# Altium schematic symbol library NASCO.SchLib: 63 symbols
Pins are listed as number, name and electrical type; pins without a type are passive.

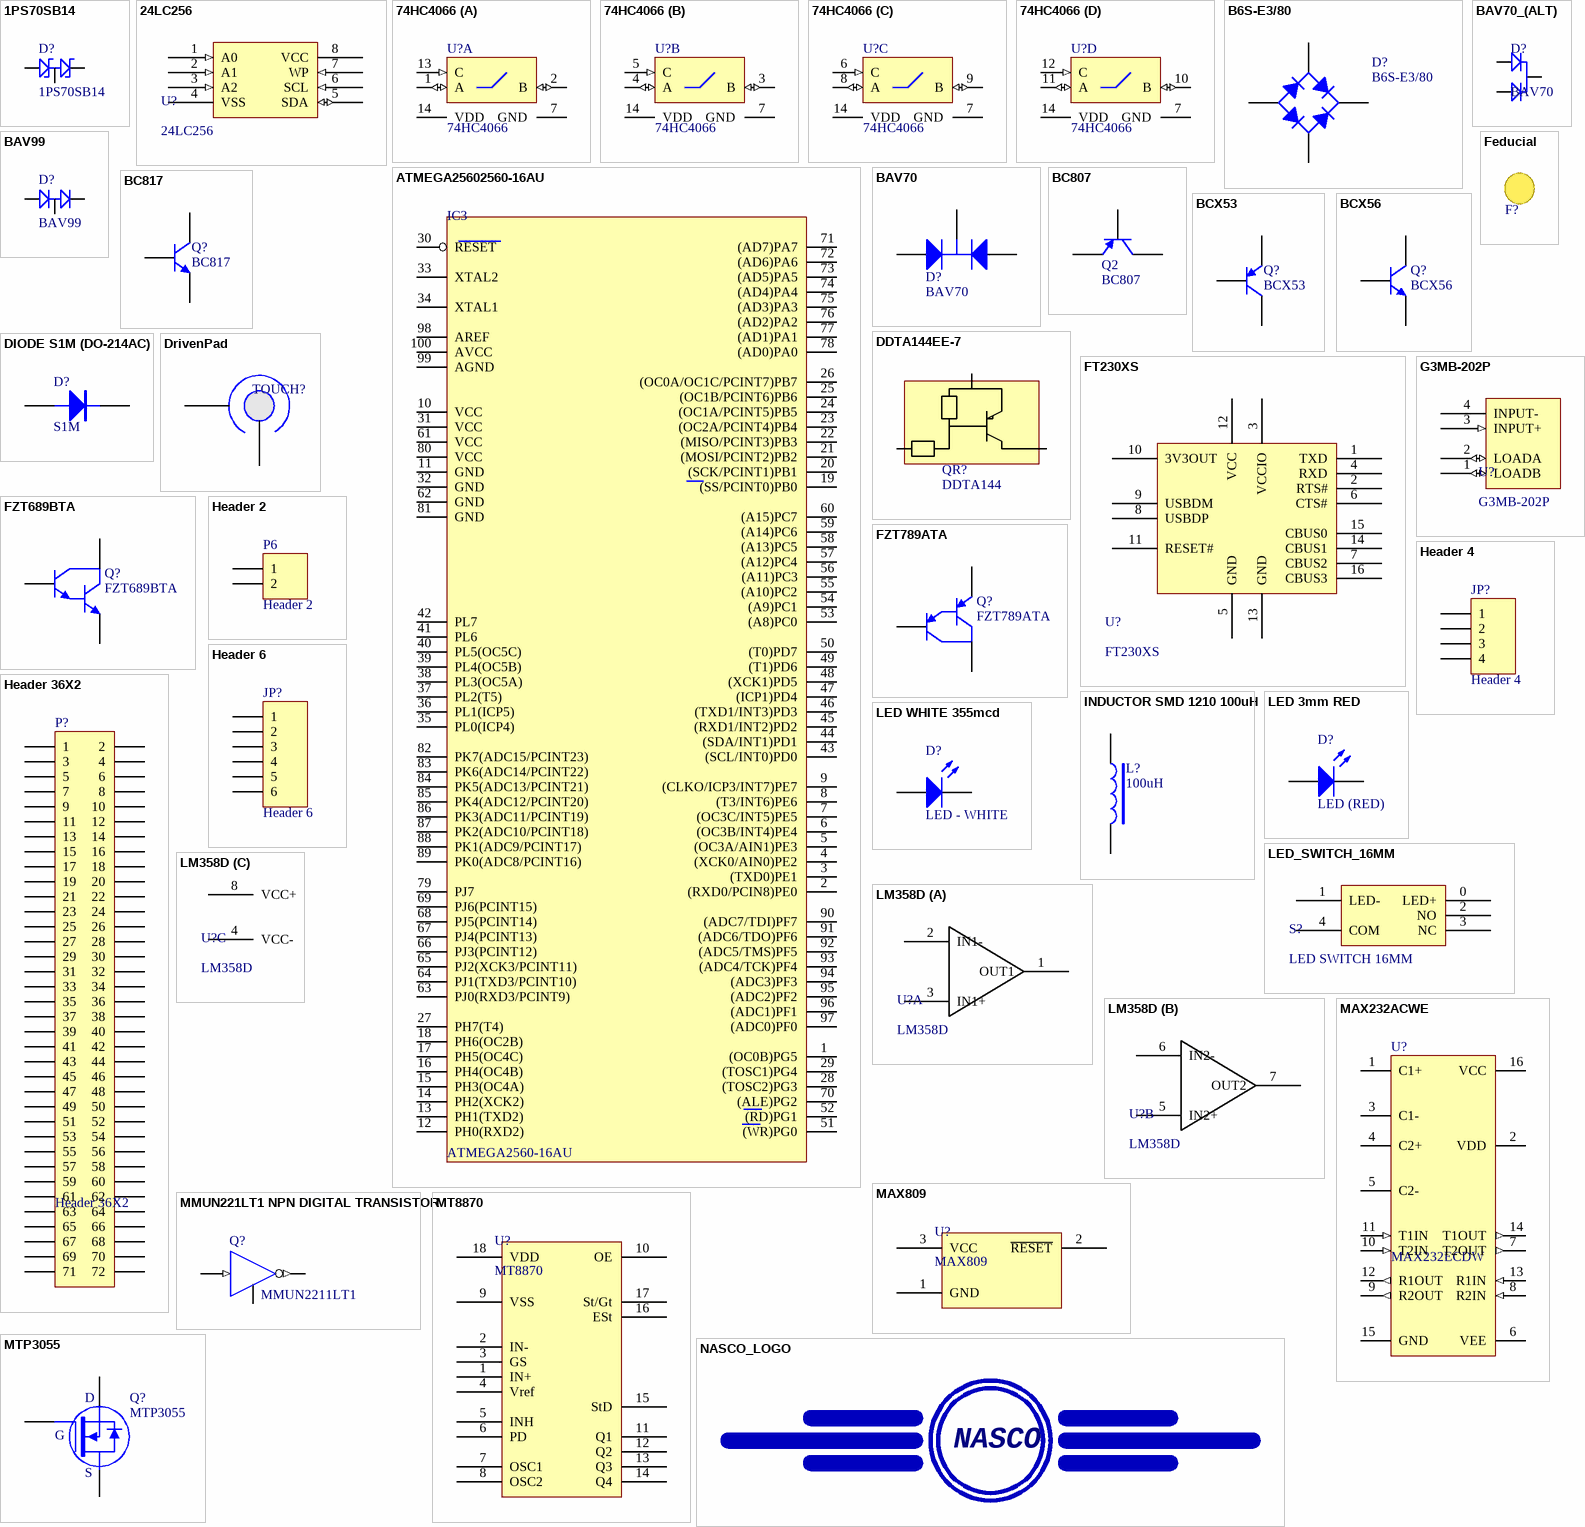
[diagram p0: symbols 1PS70SB14 to NASCO_LOGO]

## 1PS70SB14
designator D?
DUAL DIODE, SCHOTTKY; Manufacturer: NXP SEMICONDUCTORS; Manufacturer Part No.: 1PS70SB14,115; Mouser Part no.: 771-1PS70SB14115; PackageReference: SOT-23; value: 1PS70SB14; Web link: http://au.mouser.com/ProductDetail/NXP/1PS70SB14115/?qs=%2fha2pyFaduilAAyL24tUzZnn4tsMeHrtxaD3Jd8jZKE%3d
footprint SOT23-3L (SOT23, 3-Leads, Body 2.9x1.3mm, Pitch 0.95mm, Lead Span 2.5mm, IPC High Density)
pins: 1 A1, 2 C2, 3 C1/A2

## 24LC256
designator U?
256K I2C CMOS Serial EEPROM
footprint SO-8 (SOIC, 8-Leads, Body 4.9x3.9mm, Pitch 1.27mm, IPC High Density)
pins: 1 A0 (in), 2 A1 (in), 3 A2 (in), 4 VSS (power), 5 SDA (io), 6 SCL (in), 7 WP (in), 8 VCC (power)

## 74HC4066
designator U?
Quadruple Bilateral Analog Switch
footprint D014_N (SOIC, 14-Leads, Body 8.7x3.9mm, Pitch 1.27mm, IPC Medium Density)
footprint D014_L (SOIC, 14-Leads, Body 8.7x3.9mm, Pitch 1.27mm, IPC High Density)
footprint D014_M (SOIC, 14-Leads, Body 8.7x3.9mm, Pitch 1.27mm, IPC Low Density)
3D model D014 (14-Pin Small Outline Integrated Circuit 1.27 mm Pitch)
pins on every part: 7 GND (power) hidden to GND, 14 VDD (power) hidden to VDD
part A pins: 1 A (io), 2 B (io), 13 C (in)
part B pins: 3 B (io), 4 A (io), 5 C (in)
part C pins: 6 C (in), 8 A (io), 9 B (io)
part D pins: 10 B (io), 11 A (io), 12 C (in)

## ATMEGA25602560-16AU
designator IC3, comment ATMEGA2560-16AU
footprint TQFP100 (100-lead Thin Quad Flat Pack Package Outline)
pins: 1 (OC0B)PG5, 2 (RXD0/PCIN8)PE0, 3 (TXD0)PE1, 4 (XCK0/AIN0)PE2, 5 (OC3A/AIN1)PE3, 6 (OC3B/INT4)PE4, 7 (OC3C/INT5)PE5, 8 (T3/INT6)PE6, 9 (CLKO/ICP3/INT7)PE7, 10 VCC, 11 GND, 12 PH0(RXD2), 13 PH1(TXD2), 14 PH2(XCK2), 15 PH3(OC4A), 16 PH4(OC4B), 17 PH5(OC4C), 18 PH6(OC2B), 19 (SS/PCINT0)PB0, 20 (SCK/PCINT1)PB1, 21 (MOSI/PCINT2)PB2, 22 (MISO/PCINT3)PB3, 23 (OC2A/PCINT4)PB4, 24 (OC1A/PCINT5)PB5, 25 (OC1B/PCINT6)PB6, 26 (OC0A/OC1C/PCINT7)PB7, 27 PH7(T4), 28 (TOSC2)PG3, 29 (TOSC1)PG4, 30 RESET, 31 VCC, 32 GND, 33 XTAL2, 34 XTAL1, 35 PL0(ICP4), 36 PL1(ICP5), 37 PL2(T5), 38 PL3(OC5A), 39 PL4(OC5B), 40 PL5(OC5C), 41 PL6, 42 PL7, 43 (SCL/INT0)PD0, 44 (SDA/INT1)PD1, 45 (RXD1/INT2)PD2, 46 (TXD1/INT3)PD3, 47 (ICP1)PD4, 48 (XCK1)PD5, 49 (T1)PD6, 50 (T0)PD7, 51 (WR)PG0, 52 (RD)PG1, 53 (A8)PC0, 54 (A9)PC1, 55 (A10)PC2, 56 (A11)PC3, 57 (A12)PC4, 58 (A13)PC5, 59 (A14)PC6, 60 (A15)PC7, 61 VCC, 62 GND, 63 PJ0(RXD3/PCINT9), 64 PJ1(TXD3/PCINT10), 65 PJ2(XCK3/PCINT11), 66 PJ3(PCINT12), 67 PJ4(PCINT13), 68 PJ5(PCINT14), 69 PJ6(PCINT15), 70 (ALE)PG2, 71 (AD7)PA7, 72 (AD6)PA6, 73 (AD5)PA5, 74 (AD4)PA4, 75 (AD3)PA3, 76 (AD2)PA2, 77 (AD1)PA1, 78 (AD0)PA0, 79 PJ7, 80 VCC, 81 GND, 82 PK7(ADC15/PCINT23), 83 PK6(ADC14/PCINT22), 84 PK5(ADC13/PCINT21), 85 PK4(ADC12/PCINT20), 86 PK3(ADC11/PCINT19), 87 PK2(ADC10/PCINT18), 88 PK1(ADC9/PCINT17), 89 PK0(ADC8/PCINT16), 90 (ADC7/TDI)PF7, 91 (ADC6/TDO)PF6, 92 (ADC5/TMS)PF5, 93 (ADC4/TCK)PF4, 94 (ADC3)PF3, 95 (ADC2)PF2, 96 (ADC1)PF1, 97 (ADC0)PF0, 98 AREF, 99 AGND, 100 AVCC

## B6S-E3/80
designator D?
Full Wave Diode Bridge B6S-E3/80; Weblink: http://au.mouser.com/ProductDetail/Vishay-Semiconductors/B6S-E3-80/?qs=sGAEpiMZZMutXGli8Ay4kGMRQjdwKLy%252bNv%2fTuhRRheE%3d; Mouser Part No.: 625-B6S-E3/80
footprint TO-269AA
pins: 1 C, 2 K, 3 A, 4 C

## BAV70
designator D?
Common Anode Dual Diode; Manufacturer: NXP Semiconductors; Manufacturer Part No.: BAV70,215; PackageReference: SOT-23; Mouser Part no.: 771-BAV70-T/R; value: BAV70; Web link: http://au.mouser.com/ProductDetail/NXP/BAV70215/?qs=me8TqzrmIYX%252b%2fJ6jIjzNeA%3d%3d
simulation model BAV70 (SUBCKT)
footprint SOT23-3L (SOT23, 3-Leads, Body 2.9x1.3mm, Pitch 0.95mm, Lead Span 2.5mm, IPC High Density)
pins: 1 A1, 2 A2, 3 K

## BAV70_(ALT)
designator D?, comment BAV70
DUAL DIODE, BAV70 COMMON ANODE; Manufacturer: FAIRCHILD SEMICONDUCTOR; Manufacturer Part No.: BAV99; value: BAV99; Mouser Part no.: 771-BAV99/T3; Farnell Part no.: 9843612; PackageReference: SOT-23; Web link: http://au.mouser.com/ProductDetail/NXP-Semiconductors/BAV99-T3/?qs=sGAEpiMZZMtldOIVIVqa3WNg7zlWz8nBhXHsMX6ttIg%3d
footprint SOT23-3L (SOT23, 3-Leads, Body 2.9x1.3mm, Pitch 0.95mm, Lead Span 2.5mm, IPC High Density)
pins: 1 A1, 2 A2, 3 C

## BAV99
designator D?
DUAL DIODE, BAV99; Manufacturer: FAIRCHILD SEMICONDUCTOR; Mouser Part no.: 771-BAV99/T3; Farnell Part no.: 9843612; Manufacturer Part No.: BAV99; PackageReference: SOT-23; value: BAV99; Web link: http://au.mouser.com/ProductDetail/NXP-Semiconductors/BAV99-T3/?qs=sGAEpiMZZMtldOIVIVqa3WNg7zlWz8nBhXHsMX6ttIg%3d
footprint SOT23-3L (SOT23, 3-Leads, Body 2.9x1.3mm, Pitch 0.95mm, Lead Span 2.5mm, IPC High Density)
pins: 1 A1, 2 C2, 3 C1/A2

## BC807
designator Q2
BC807 PNP Bipolar Transistor; Manufacturer: ON Semiconductor; Manufacturer Part No.: BC807-25WT1G; Value: BC807; Mouser Part no.: 863-BC807-25WT1G; Web link: http://au.mouser.com/ProductDetail/ON-Semiconductor/BC807-25WT1G/?qs=sGAEpiMZZMubXWjzskHvc6D23fUp2P%252bj
signal-integrity model PNP
footprint SOT23-3L (SOT23, 3-Leads, Body 2.9x1.3mm, Pitch 0.95mm, Lead Span 2.5mm, IPC High Density)
pins: 1 B, 2 E, 3 C

## BC817
designator Q?
NPN Bipolar Transistor; Manufacturer: ON Semiconductor; Manufacturer Part No.: BC817-25LT1G; Revision: July-2002: Re-released for DXP Platform.; Mouser Part no.: 863-BC817-25LT1G; Farnell Part no.: 1081223; value: BC817; Web link: http://au.mouser.com/ProductDetail/ON-Semiconductor/BC817-25LT1G/?qs=sGAEpiMZZMutXGli8Ay4kJTaSFKHrKTHz5OxB%252bfaCCM%3d
simulation model NPN
signal-integrity model NPN
footprint SOT23-3L (SOT23, 3-Leads, Body 2.9x1.3mm, Pitch 0.95mm, Lead Span 2.5mm, IPC High Density)
pins: 1 B, 2 E, 3 C

## BCX53
designator Q?
PNP Bipolar Transistor; Manufacturer: Infineon; Manufacturer Part No.: BCX5310E6327XT; Revision: July-2002: Re-released for DXP Platform.; Mouser Part no.: 726-BCX53-10E6327; Farnell Part no.: 1471214; value: BCX53; Web link: http://au.mouser.com/ProductDetail/Infineon/BCX5310E6327XT/?qs=6QXTaorEuHsHfWvoP3fvEQ%3d%3d
simulation model PNP
signal-integrity model PNP
footprint SOT89L (SOT89, 3-Leads, Body 4.5x2.4 mm, Pitch 1.5mm, Lead Span 4.1mm, IPC High Density); pin to pad 1>2 2>1
pins: 1 C, 2 B, 3 E

## BCX56
designator Q?
PNP Bipolar Transistor; Revision: July-2002: Re-released for DXP Platform.
simulation model PNP
signal-integrity model PNP
footprint SOT89
pins: 1 B, 2 C, 3 E

## DDTA144EE-7
designator QR?, comment DDTA144
PRE-BIASED PNP TRANSISTOR; Manufacturer: Diodes Inc; Manufacturer Part No.: DDTA144EE-7; Mouser Part no.: 621-DDTA144EE; Web link: http://au.mouser.com/ProductDetail/Diodes-Inc/DDTA144EE-7/?qs=sGAEpiMZZMt32xmUYxteee5LPI%252bR7nPUW7cViTEmlks%3d
footprint SOT523
pins: 1 B, 2 E, 3 C

## DIODE S1M (DO-214AC)
designator D?, comment S1M
DIODE, POWER; Manufacturer: Taiwan Semiconductor; Mouser Part no.: 821-S1M; Farnell Part no.: 9843841; Manufacturer Part No.: S1M; Web link: http://au.mouser.com/Search/Refine.aspx?Keyword=821-S1M
footprint DO-214AC
pins: 1 A, 2 K

## DrivenPad
designator TOUCH?, comment TOUCH PAD  (value not drawn)  (no BOM)
pins: 1, 2

## Feducial
designator F?  (value not drawn)
Manufacturer: N/A - PCB ARTWORK; Manufacturer Part No.: N/A
footprint Feducial

## FT230XS
designator U?
FT230X USB TO BASIC UART
footprint SSOP16 (SOP, 16-Leads, Body 6.2x5.3mm, Pitch 0.65mm, IPC High Density)
pins: 1 TXD, 2 RTS#, 3 VCCIO, 4 RXD, 5 GND, 6 CTS#, 7 CBUS2, 8 USBDP, 9 USBDM, 10 3V3OUT, 11 RESET#, 12 VCC, 13 GND, 14 CBUS1, 15 CBUS0, 16 CBUS3

## FZT689BTA
designator Q?
FZT689BTA NPN DARLINGTON
simulation model NPN1 (Spice Subcircuit)
signal-integrity model NPN
footprint SOT223 (SOT-223/SC-73; 4 Leads; Body 6.7 x 7.3 mm, inc. leads (LxW max))
pins: 1 B, 2 C, 3 E, 4 C

## FZT789ATA
designator Q?
FZT789ATA - PNP Darlington Bipolar Transistor
simulation model PNP1 (Spice Subcircuit)
signal-integrity model PNP
footprint SOT223 (SOT-223/SC-73; 4 Leads; Body 6.7 x 7.3 mm, inc. leads (LxW max))
pins: 1 B, 2 C, 3 E, 4 C

## G3MB-202P
designator U?
G3MB-202P - 5VDC 240VAC 2A SSR
footprint G3MB-202P
pins: 1 LOADB (io), 2 LOADA (io), 3 INPUT+ (in), 4 INPUT- (power)

## Header 2
designator P6
Header, 2-Pin; Manufacturer: FCI; Manufacturer Part No.: 68020-102; Mouser Part no.: 649-68020-102; Web link: http://au.mouser.com/ProductDetail/FCI/68020-102/?qs=sGAEpiMZZMs%252bGHln7q6pm44kDepmYTI87r6%2fnQtKGLI%3d
footprint HDR1X2 (Connector; Header; 2 Position)
signal-integrity model Connector
footprint 0.100 inch AMPMODU 2x1
footprint HDR1X2 (Connector; Header; 2 Position)
pins: 1, 2

## Header 4
designator JP?
HEADER, 4 WAY; Manufacturer: Phoenix Contact; Manufacturer Part No.: 1758034 & 1757035; Revision: July-2002: Re-released for DXP Platform.; Mouser Part no.: 651-1758034 & 651-1757035; value: -; Web link: http://au.mouser.com/ProductDetail/Phoenix-Contact/1758034/?qs=%252bgQiJDubo6G371Cj%252bH%252bnSQ%3d%3d; Web Link 2: http://au.mouser.com/ProductDetail/Phoenix-Contact/1757035/?qs=cyzODkzcbwACPszTnJZMhA%3d%3d
signal-integrity model Connector
footprint 5.08mm HEADER 4 Way - With Socket (PHOENIX CONTACT 1758034 & 1758035)
pins: 1, 2, 3, 4

## Header 6
designator JP?
HEADER, 6 WAY; Manufacturer: Tyco; Manufacturer Part No.: 640454-6; Revision: July-2002: Re-released for DXP Platform.; Mouser Part no.: 571-6404546; Farnell Part no.: 1820930; Web link: http://au.mouser.com/ProductDetail/Tyco-Electronics-AMP/640454-6/?qs=sGAEpiMZZMtsLRyDR9nM16DGeeXFND9gVzw0Xh4jpIc%3d
signal-integrity model Connector
footprint TERMINAL-6 POL
pins: 1, 2, 3, 4, 5, 6

## Header 36X2
designator P?
Header, 36-Pin, Dual row; LatestRevisionDate: 17-Jul-2002; LatestRevisionNote: Re-released for DXP Platform.; Publisher: Altium Limited
footprint HDR2X30 (Connector; Header; 30x2 Position)
signal-integrity model Connector
pins: 1, 2, 3, 4, 5, 6, 7, 8, 9, 10, 11, 12, 13, 14, 15, 16, 17, 18, 19, 20, 21, 22, 23, 24, 25, 26, 27, 28, 29, 30, 31, 32, 33, 34, 35, 36, 37, 38, 39, 40, 41, 42, 43, 44, 45, 46, 47, 48, 49, 50, 51, 52, 53, 54, 55, 56, 57, 58, 59, 60, 61 (power), 62 (power), 63 (power), 64 (power), 65 (power), 66 (power), 67 (power), 68 (power), 69 (power), 70 (power), 71 (power), 72 (power)

## INDUCTOR SMD 1210 100uH
designator L?, comment 100uH
INDUCTOR SMD 1210; Manufacturer: Murata; Manufacturer Part No.: LQH32CN101K23L; Mouser Part no.: 81-LQH32CN101K23L; Web link: http://au.mouser.com/ProductDetail/Murata/LQH32CN101K23L/?qs=Y6guavlW%2fYZ9TimsH666Cg%3d%3d
footprint IND(3D) - 1210
pins: 1, 2

## LED 3mm RED
designator D?, comment LED (RED)
3mm RED LED; Manufacturer: Kingbright; Manufacturer Part No.: WP132XIT; Mouser Part no.: 604-WP132XIT; Farnell Part no.: 1003393; Web link: http://au.mouser.com/Search/Refine.aspx?Keyword=604-WP132XIT
footprint LED-0 (Typical INFRARED GaAs LED; 2 Leads)
simulation model LED0 (Diode)
footprint LED 3MM
pins: 1 A, 2 K

## LED WHITE 355mcd
designator D?, comment LED - WHITE
VISHAY WHITE VLMW41S1T1-5K8L-18; Manufacturer: Vishay Semiconductors; PackageReference: LED-0; Mouser Part no.: 78-VLMW41S1T15K8L18; Farnell Part no.: 1648562; Manufacturer Part No.: VLMW41S1T1-5K8L-18; Web link: http://au.mouser.com/ProductDetail/Vishay/VLMW41S1T1-5K8L-18/?qs=F8HfwHd0zjfXW2LighYdDg%3d%3d
footprint PLCC_2
pins: 1 A, 2 K

## LED_SWITCH_16MM
designator S?, comment LED SWITCH 16MM
16mm LED Switch
footprint LED_SWITCH_16MM (LED Switch 16mm)
pins: 0 LED+, 1 LED-, 2 NO, 3 NC, 4 COM

## LM358D
designator U?
Low-power dual operational amplifiers
footprint SO-8 (SOIC, 8-Leads, Body 4.9x3.9mm, Pitch 1.27mm, IPC High Density)
part A pins: 1 OUT1, 2 IN1-, 3 IN1+
part B pins: 5 IN2+, 6 IN2-, 7 OUT2
part C pins: 4 VCC-, 8 VCC+

## MAX232ACWE
designator U?, comment MAX232ECDW
Texas Instruments MAX232ECDW; Mouser Part No.: 595-MAX232ECDW
footprint WSO16_N (SOIC, 16-Leads, Body 10.3x7.5mm, Pitch 1.27mm, IPC Medium Density)
footprint WSO16_L (SOIC, 16-Leads, Body 10.3x7.5mm, Pitch 1.27mm, IPC High Density)
footprint WSO16_M (SOIC, 16-Leads, Body 10.3x7.5mm, Pitch 1.27mm, IPC Low Density)
3D model WSO16 (16-Pin Small Outline Integrated Circuit 1.27 mm Pitch)
pins: 1 C1+, 2 VDD (power), 3 C1-, 4 C2+, 5 C2-, 6 VEE (power), 7 T2OUT (out), 8 R2IN (in), 9 R2OUT (out), 10 T2IN (in), 11 T1IN (in), 12 R1OUT (out), 13 R1IN (in), 14 T1OUT (out), 15 GND (power), 16 VCC (power)

## MAX809
designator U?
footprint SOT23-3L (SOT23, 3-Leads, Body 2.9x1.3mm, Pitch 0.95mm, Lead Span 2.5mm, IPC High Density)
pins: 1 GND, 2 ~{RESET}, 3 VCC

## MMUN221LT1 NPN DIGITAL TRANSISTOR
designator Q?, comment MMUN2211LT1
Manufacturer: ON Semiconductor; Manufacturer Part No.: MMUN2211LT1G; Mouser Part no.: 863-MMUN2211LT1G; Farnell Part no.: 9556648RL; Web link: http://au.mouser.com/ProductDetail/ON-Semiconductor/MMUN2211LT1G/?qs=sGAEpiMZZMt32xmUYxteeYvHZcSNQKJZCO%252bIh%252bS%252bXZs%3d
footprint SOT23-3L (SOT23, 3-Leads, Body 2.9x1.3mm, Pitch 0.95mm, Lead Span 2.5mm, IPC High Density)
pins: 1 B (in), 2 E, 3 C (out)

## MT8870
designator U?
MT8870 DTMF DECODER
footprint JN18 (DIP; 18 Leads; Row Spacing 7.62 mm; Pitch 2.54 mm)
pins: 1 IN+, 2 IN-, 3 GS, 4 Vref, 5 INH, 6 PD, 7 OSC1, 8 OSC2, 9 VSS, 10 OE, 11 Q1, 12 Q2, 13 Q3, 14 Q4, 15 StD, 16 ESt, 17 St/Gt, 18 VDD

## MTP3055
designator Q?
MTP3055 P-Channel MOSFET; Value: MTP3055
footprint TO-220AB (TO, Thru-Hole, Vertical, Heatsink Mounted; 3 In-Line Leads; Pitch 2.54 mm)
footprint TO-220AB (TO, Thru-Hole, Vertical, Heatsink Mounted; 3 In-Line Leads; Pitch 2.54 mm)
pins: 1 G, 2 D, 3 S

## NASCO_LOGO
designator LOGO?, comment NASCO  (value not drawn)  (no BOM)
LOGO; Published: 17-Jul-2002; LatestRevisionDate: 06-Jun-2005; LatestRevisionNote: Stylized 3D Model Added; DatasheetVersion: 1989; PackageReference: 632-08; Publisher: Altium Limited; PackageDescription: DIP; 14 Leads; Row Spacing 7.62 mm; Pitch 2.54 mm; ComponentLink1Description: Manufacturer Link; ComponentLink1URL: http://www.onsemi.com/site/products/parametrics/0,4446,247,00.html; ComponentLink2Description: Ibis Model; ComponentLink2URL: http://www.onsemi.com/pub/Collateral/MC54HC32AJ.IBS
footprint NASCO_LOGO

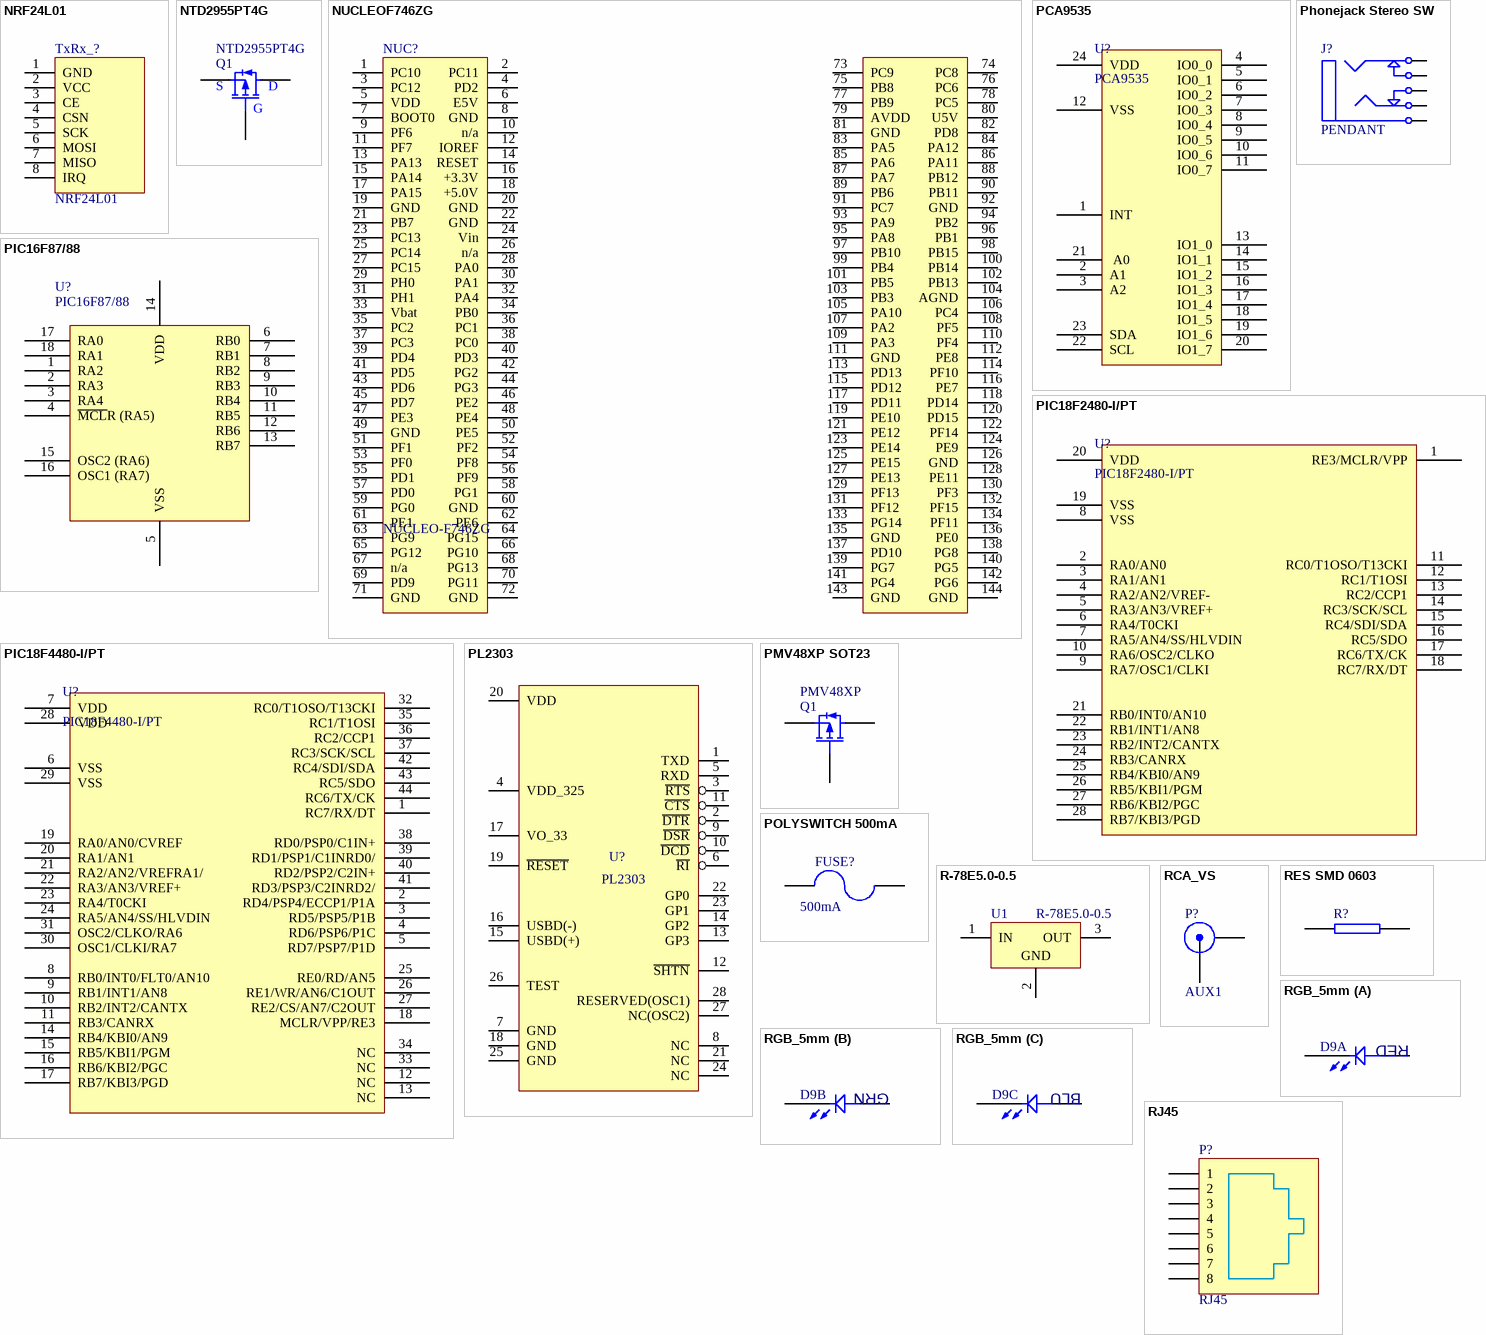
[diagram p1: symbols NRF24L01 to RJ45]

## NRF24L01
designator TxRx_?
Header, 8-Pin
signal-integrity model Connector
footprint NRF24L01
pins: 1 GND, 2 VCC, 3 CE, 4 CSN, 5 SCK, 6 MOSI, 7 MISO, 8 IRQ

## NTD2955PT4G
designator Q1
P-Channel MOSFET; Manufacturer: On Semi; Value: NTD2955PT4G; Manufacturer Part No.: NTD2955PT4G; Mouser Part no.: 863-NTD2955PT4G; Web link: http://au.mouser.com/ProductDetail/ON-Semiconductor/NTD2955PT4G/?qs=sGAEpiMZZMvECErq9cesgEP4QL0%252bKm5wEVD7hWYI3V8%3d
simulation model PMOS (MOSFET-P)
footprint DPAK 396 (TO230P990-3)
pins: 1 G, 3 S, 4 D

## NUCLEOF746ZG
designator NUC?, comment NUCLEO-F746ZG
LatestRevisionDate: 17-Jul-2002; LatestRevisionNote: Re-released for DXP Platform.; Publisher: Altium Limited
signal-integrity model Connector
footprint NUCLEOF746 (STM Nucleo 746)
pins: 1 PC10, 2 PC11, 3 PC12, 4 PD2, 5 VDD, 6 E5V, 7 BOOT0, 8 GND, 9 PF6, 10 n/a, 11 PF7, 12 IOREF, 13 PA13, 14 RESET, 15 PA14, 16 +3.3V, 17 PA15, 18 +5.0V, 19 GND, 20 GND, 21 PB7, 22 GND, 23 PC13, 24 Vin, 25 PC14, 26 n/a, 27 PC15, 28 PA0, 29 PH0, 30 PA1, 31 PH1, 32 PA4, 33 Vbat, 34 PB0, 35 PC2, 36 PC1, 37 PC3, 38 PC0, 39 PD4, 40 PD3, 41 PD5, 42 PG2, 43 PD6, 44 PG3, 45 PD7, 46 PE2, 47 PE3, 48 PE4, 49 GND, 50 PE5, 51 PF1, 52 PF2, 53 PF0, 54 PF8, 55 PD1, 56 PF9, 57 PD0, 58 PG1, 59 PG0, 60 GND, 61 PE1 (power), 62 PE6 (power), 63 PG9 (power), 64 PG15 (power), 65 PG12 (power), 66 PG10 (power), 67 n/a (power), 68 PG13 (power), 69 PD9 (power), 70 PG11 (power), 71 GND (power), 72 GND (power), 73 PC9, 74 PC8, 75 PB8, 76 PC6, 77 PB9, 78 PC5, 79 AVDD, 80 U5V, 81 GND, 82 PD8, 83 PA5, 84 PA12, 85 PA6, 86 PA11, 87 PA7, 88 PB12, 89 PB6, 90 PB11, 91 PC7, 92 GND, 93 PA9, 94 PB2, 95 PA8, 96 PB1, 97 PB10, 98 PB15, 99 PB4, 100 PB14, 101 PB5, 102 PB13, 103 PB3, 104 AGND, 105 PA10, 106 PC4, 107 PA2, 108 PF5, 109 PA3, 110 PF4, 111 GND, 112 PE8, 113 PD13, 114 PF10, 115 PD12, 116 PE7, 117 PD11, 118 PD14, 119 PE10, 120 PD15, 121 PE12, 122 PF14, 123 PE14, 124 PE9, 125 PE15, 126 GND, 127 PE13, 128 PE11, 129 PF13, 130 PF3, 131 PF12, 132 PF15, 133 PG14, 134 PF11, 135 GND, 136 PE0, 137 PD10, 138 PG8, 139 PG7, 140 PG5, 141 PG4, 142 PG6, 143 GND, 144 GND

## PCA9535
designator U?
PCA9535 I2C BUS 16 BIT IO EXPANDER
footprint WSO24_L (Footprint not found)
pins: 1 INT (oc), 2 A1, 3 A2, 4 IO0_0, 5 IO0_1, 6 IO0_2, 7 IO0_3, 8 IO0_4, 9 IO0_5, 10 IO0_6, 11 IO0_7, 12 VSS, 13 IO1_0, 14 IO1_1, 15 IO1_2, 16 IO1_3, 17 IO1_4, 18 IO1_5, 19 IO1_6, 20 IO1_7, 21  A0, 22 SCL, 23 SDA, 24 VDD

## Phonejack Stereo SW
designator J?, comment PENDANT
3-Conductor Jack with 2 break contacts (normals) and 2 auxiliary make contacts; Altronics Part no.: P0073; Manufacturer: Neutrik; Manufacturer Part No.: NMJ6HFD2; Mouser Part no.: 550-20301; Web link: http://au.mouser.com/ProductDetail/Neutrik/NMJ6HFD2/?qs=y5MlCMoPWsng3r9W7xlRqw%3d%3d
signal-integrity model Connector
footprint 6.35mm Socket - Auto Mount; pin to pad 1>5 2>1 5>2
footprint 3.5MM pcb mouNt
pins: 1, 2, 3, 4, 5

## PIC16F87/88
designator U?
PIC16F88; Manufacturer: Microchip Technology; Manufacturer Part No.: PIC16F88-E/SS; Mouser Part no.: 579-PIC16F88-E/SS; Farnell Part no.: 9761519; value: PIC16F88; Web link: http://au.mouser.com/ProductDetail/Microchip-Technology/PIC16F88-E-SS/?qs=sGAEpiMZZMvu0Nwh4cA1waDrdroEY0RCb%252bRi%252b4Dz0K0%3d
footprint SOIC-18
pins: 1 RA2, 2 RA3, 3 RA4, 4 ~{MCL}R (RA5), 5 VSS, 6 RB0, 7 RB1, 8 RB2, 9 RB3, 10 RB4, 11 RB5, 12 RB6, 13 RB7, 14 VDD, 15 OSC2 (RA6), 16 OSC1 (RA7), 17 RA0, 18 RA1

## PIC18F2480-I/PT
designator U?
footprint SOIC28_M (28-Pin Small Outline Integrated Circuit 1.27 mm Pitch, IPC Low Density)
pins: 1 RE3/MCLR/VPP, 2 RA0/AN0, 3 RA1/AN1, 4 RA2/AN2/VREF-, 5 RA3/AN3/VREF+, 6 RA4/T0CKI, 7 RA5/AN4/SS/HLVDIN, 8 VSS, 9 RA7/OSC1/CLKI, 10 RA6/OSC2/CLKO, 11 RC0/T1OSO/T13CKI, 12 RC1/T1OSI, 13 RC2/CCP1, 14 RC3/SCK/SCL, 15 RC4/SDI/SDA, 16 RC5/SDO, 17 RC6/TX/CK, 18 RC7/RX/DT, 19 VSS, 20 VDD, 21 RB0/INT0/AN10, 22 RB1/INT1/AN8, 23 RB2/INT2/CANTX, 24 RB3/CANRX, 25 RB4/KBI0/AN9, 26 RB5/KBI1/PGM, 27 RB6/KBI2/PGC, 28 RB7/KBI3/PGD

## PIC18F4480-I/PT
designator U?
footprint TQFP44_L (44-Pin Plastic Thin Quad Flat Pack (TFQP44), IPC High Density)
pins: 1 RC7/RX/DT, 2 RD4/PSP4/ECCP1/P1A, 3 RD5/PSP5/P1B, 4 RD6/PSP6/P1C, 5 RD7/PSP7/P1D, 6 VSS, 7 VDD, 8 RB0/INT0/FLT0/AN10, 9 RB1/INT1/AN8, 10 RB2/INT2/CANTX, 11 RB3/CANRX, 12 NC, 13 NC, 14 RB4/KBI0/AN9, 15 RB5/KBI1/PGM, 16 RB6/KBI2/PGC, 17 RB7/KBI3/PGD, 18 MCLR/VPP/RE3, 19 RA0/AN0/CVREF, 20 RA1/AN1, 21 RA2/AN2/VREFRA1/, 22 RA3/AN3/VREF+, 23 RA4/T0CKI, 24 RA5/AN4/SS/HLVDIN, 25 RE0/RD/AN5, 26 RE1/WR/AN6/C1OUT, 27 RE2/CS/AN7/C2OUT, 28 VDD, 29 VSS, 30 OSC1/CLKI/RA7, 31 OSC2/CLKO/RA6, 32 RC0/T1OSO/T13CKI, 33 NC, 34 NC, 35 RC1/T1OSI, 36 RC2/CCP1, 37 RC3/SCK/SCL, 38 RD0/PSP0/C1IN+, 39 RD1/PSP1/C1INRD0/, 40 RD2/PSP2/C2IN+, 41 RD3/PSP3/C2INRD2/, 42 RC4/SDI/SDA, 43 RC5/SDO, 44 RC6/TX/CK

## PL2303
designator U?
PL2303 USB to 232 Converter (FT232 Compatible)
footprint SSOP28 (Shrink Small Outline Package)
pins: 1 TXD, 2 ~{DTR}, 3 ~{RTS}, 4 VDD_325, 5 RXD, 6 ~{RI}, 7 GND, 8 NC, 9 ~{DSR}, 10 ~{DCD}, 11 ~{CTS}, 12 ~{SHTN}, 13 GP3, 14 GP2, 15 USBD(+), 16 USBD(-), 17 VO_33, 18 GND, 19 ~{RESET}, 20 VDD, 21 NC, 22 GP0, 23 GP1, 24 NC, 25 GND, 26 TEST, 27 NC(OSC2), 28 RESERVED(OSC1)

## PMV48XP SOT23
designator Q1, comment PMV48XP
P-Channel MOSFET; Manufacturer: NXP Semiconductors; Manufacturer Part No.: PMV48XP,215; Value: PMV48XP; Mouser Part no.: 771-PMV48XP215; Web link: http://au.mouser.com/ProductDetail/NXP/PMV48XP215/?qs=%2fha2pyFaduiUrCHrKxCeVSeHcbYcBmU4VwIjTQeK2Aw%3d
simulation model PMOS (MOSFET-P)
footprint SOT23-3L (SOT23, 3-Leads, Body 2.9x1.3mm, Pitch 0.95mm, Lead Span 2.5mm, IPC High Density)
pins: 1 G, 2 S, 3 D

## POLYSWITCH 500mA
designator FUSE?, comment 500mA
POLYSWITCH 500mA; Manufacturer: Tyco Electronics / Raychem; Manufacturer Part No.: MINISMDC050F-2; Mouser Part no.: 650-MINISMDC050F-2; Farnell Part no.: 1175839; Web link: http://au.mouser.com/ProductDetail/Tyco-Electronics-Raychem/MINISMDC050F-2/?qs=sGAEpiMZZMu7EFbsM1w0neRfX3mrvYIvOpkrchiUGng%3d
footprint miniSMD Polyswitch (RAYCHEM - MINISMDC050F-2)
pins: 1, 2

## R-78E5.0-0.5
designator U1
3-Terminal Positive Fixed Voltage Regulator; Value: R-78E5.0-0.5
footprint R-78E5.0-0.5 (RECOM R-78E5.0-0.5 DC-DC CONVERTER)
pins: 1 IN (power), 2 GND (power), 3 OUT (power)

## RCA_VS
designator P?, comment AUX1
RCA CONNECTOR; Altronics Part no.: P0161; Manufacturer: Kobiconn; Manufacturer Part No.: 16PJ052; Revision: 17-Jul-2002: Re-released for DXP Platform.; Mouser Part no.: 16PJ052; Web link: http://au.mouser.com/ProductDetail/Kobiconn/16PJ052/?qs=avZEhbHWMbFFCW8gs2lVKQ%3d%3d
signal-integrity model Connector
footprint RCA_SCREW
pins: 1 X, 2 Y

## RES SMD 0603
designator R?
RESISTOR SMD 0603
footprint RES (3D) - 0603
pins: 1, 2

## RGB_5mm
designator D9, comment RGB 5mm  (value not drawn)
value: RGB 5mm; Web link: eBay
footprint LED(3D) 5MM RIGHT ANGLE (RGB) - COMMON ANODE
part A pins: 1 K, 2 A
part B pins: 2 A, 4 K
part C pins: 2 A, 3 K
part A text: RED
part B text: GRN
part C text: BLU

## RJ45
designator P?
LatestRevisionDate: 17-Jul-2002; LatestRevisionNote: Re-released for DXP Platform.; Publisher: Altium Limited
signal-integrity model Connector
pins: 1, 2, 3, 4, 5, 6, 7, 8

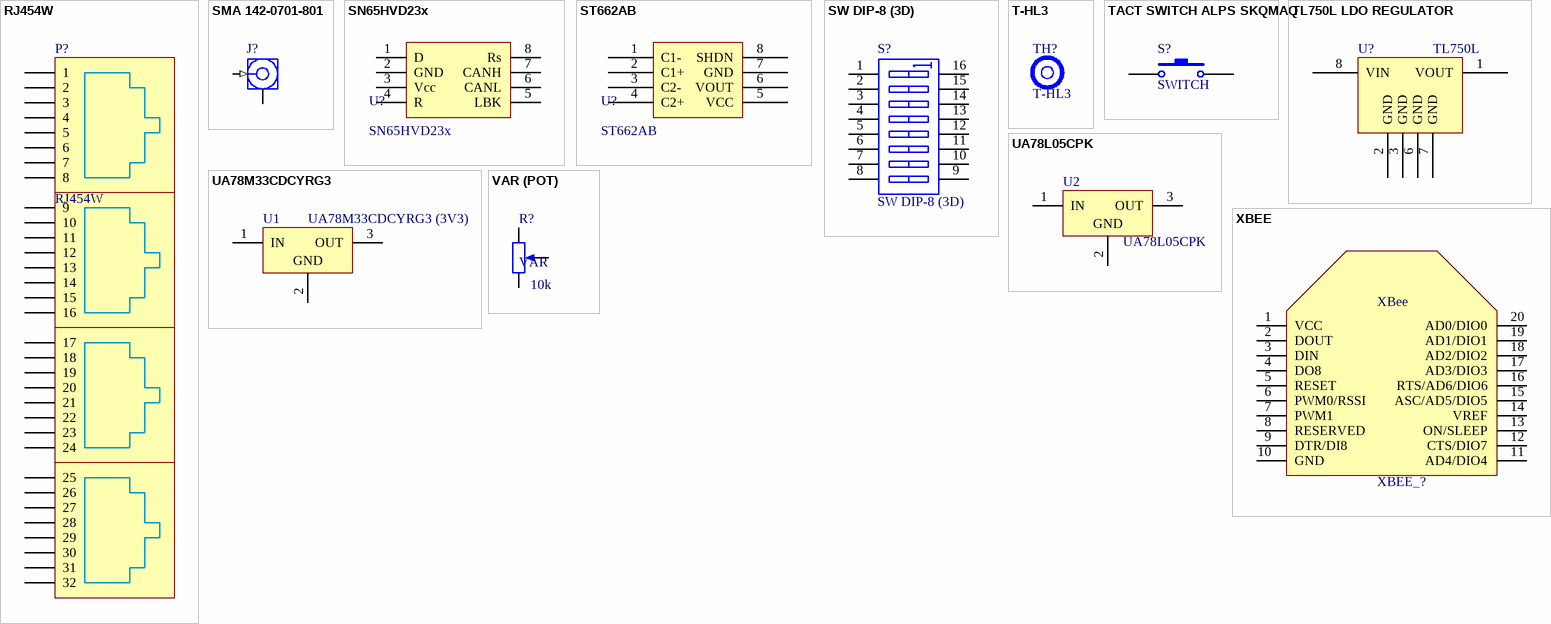
[diagram p2: symbols RJ454W to XBEE]

## RJ454W
designator P?
RJ45 4 WAY; LatestRevisionDate: 17-Jul-2002; LatestRevisionNote: Re-released for DXP Platform.; Publisher: Altium Limited
signal-integrity model Connector
footprint RJ45 4 WAY (RJ45 4 Way Horizontal)
pins: 1, 2, 3, 4, 5, 6, 7, 8, 9, 10, 11, 12, 13, 14, 15, 16, 17, 18, 19, 20, 21, 22, 23, 24, 25, 26, 27, 28, 29, 30, 31, 32

## SMA 142-0701-801
designator J?, comment SMA  (value not drawn)
JOHNSON / EMERSON SMA PCB EDGE; Manufacturer Part No.: 142-0701-801; Manufacturer: Johnson / Emerson; Mouser Part no.: 530-142-0701-801; value: SMA; Web link: http://au.mouser.com/ProductDetail/Emerson-Connectivity-Solutions/142-0701-801/?qs=%2fha2pyFadui1v%252bStuw7JbRg0ffTvIaD43efyyE%252b%252b43dWi%252bwW6373fw%3d%3d
signal-integrity model RF Coaxial
footprint SMA EDGE MOUNT
pins: 1 Signal (in) "Signal Pin", 2 GND (power)

## SN65HVD23x
designator U?
SN65HVD23x 3.3V CAN Bus Transceiver
footprint SO-8 (SOIC, 8-Leads, Body 4.9x3.9mm, Pitch 1.27mm, IPC High Density)
pins: 1 D, 2 GND, 3 Vcc, 4 R, 5 LBK, 6 CANL, 7 CANH, 8 Rs

## ST662AB
designator U?
DC-DC converter 5V to 12V 30mA
footprint SO-8 (SOIC, 8-Leads, Body 4.9x3.9mm, Pitch 1.27mm, IPC High Density)
pins: 1 C1-, 2 C1+, 3 C2-, 4 C2+, 5 VCC, 6 VOUT, 7 GND, 8 SHDN

## SW DIP-8 (3D)
designator S?
DIP Switch, 8 Position, SPST; Published: 24-Mar-1999; LatestRevisionDate: 17-Jul-2002; LatestRevisionNote: Re-released for DXP Platform.; PackageReference: DIP_SW_8WAY_SMD; Publisher: Altium Limited
simulation model dpsw8 (Spice Subcircuit)
footprint DIP SWITCH 8WAY (3D)
pins: 1 A1, 2 A2, 3 A3, 4 A4, 5 A5, 6 A6, 7 A7, 8 A8, 9 B8, 10 B7, 11 B6, 12 B5, 13 B4, 14 B3, 15 B2, 16 B1

## T-HL3
designator TH?
Manufacturer: PCB DESIGN; Manufacturer Part No.: N/A
footprint T-HL3

## TACT SWITCH ALPS SKQMAQ
designator S?, comment SWITCH
Manufacturer: Mountain Switch; Manufacturer Part No.: 101-0264-EV; PackageReference: SPST-2; Mouser Part no.: 101-0264-EV; Web link: http://au.mouser.com/ProductDetail/Mountain-Switch/101-0264-EV/?qs=sGAEpiMZZMsgGjVA3toVBDnZjK1udZ%2fpYjk5pdxgsFo%3d; Value: SWITCH
footprint TACT 6mm
pins: 1, 2

## TL750L LDO REGULATOR
designator U?, comment TL750L
IC, VOLTAGE REGUALTOR; Manufacturer: Texas Instruments; Manufacturer Part No.: TL750L05CDR; Mouser Part no.: 595-TL750L05CDR; Farnell Part no.: 1261363; Web link: http://au.mouser.com/ProductDetail/Texas-Instruments/TL750L05CDR/?qs=sGAEpiMZZMsGz1a6aV8DcHWet81Yjl3lcqcJtsBI8cc%3d
footprint None Available
footprint SO-8
pins: 1 VOUT, 2 GND, 3 GND, 4 hidden, 5 hidden, 6 GND, 7 GND, 8 VIN

## UA78L05CPK
designator U2
3-Terminal Positive Fixed Voltage Regulator; Manufacturer: Texas Instruments; Value: 78L05; Mouser Part No.: 595-UA78L05CPK; Manufacturer Part No.: UA78L05CPK; Web link: http://au.mouser.com/ProductDetail/Texas-Instruments/UA78L05CPK/?qs=sGAEpiMZZMug9GoBKXZ752zpfzgkUxVv6JK8yg2x40A%3d
footprint SOT89
pins: 1 IN (power), 2 GND (power), 3 OUT (power)

## UA78M33CDCYRG3
designator U1, comment UA78M33CDCYRG3 (3V3)
3-Terminal Positive Fixed Voltage Regulator (3V3); Manufacturer: Texas Instruments; Mouser Part No.: 595-UA78M33CDCYRG3; Value: UA78M33CDCYRG3 (3V3); Manufacturer Part No.: UA78M33CDCYRG3; Web Link: http://au.mouser.com/ProductDetail/Texas-Instruments/UA78M33CDCYRG3/?qs=sGAEpiMZZMtUqDgmOWBjgCb759GUAfeoDL97C8Znw8M%3d
footprint SOT223 (SOT-223/SC-73; 4 Leads; Body 6.7 x 7.3 mm, inc. leads (LxW max))
pins: 1 IN (power), 2 GND (power), 3 OUT (power)

## VAR (POT)
designator R?, comment VAR  value 10k
Variable Resistor
footprint AXIAL-0.6 (Axial Device, Thru-Hole; 2 Leads; 0.6 in Pin Spacing)
simulation model VRES (Variable Resistor)
signal-integrity model Res Adj
pins: 1, 2, 3

## XBEE
designator XBEE_?  (value not drawn)
footprint XBEE
pins: 1 VCC, 2 DOUT, 3 DIN, 4 DO8, 5 RESET, 6 PWM0/RSSI, 7 PWM1, 8 RESERVED, 9 DTR/DI8, 10 GND, 11 AD4/DIO4, 12 CTS/DIO7, 13 ON/SLEEP, 14 VREF, 15 ASC/AD5/DIO5, 16 RTS/AD6/DIO6, 17 AD3/DIO3, 18 AD2/DIO2, 19 AD1/DIO1, 20 AD0/DIO0
text: XBee